# Altium footprint library 61410416121R.PcbLib: 1 footprints
Each footprint in its own frame and in the unit in brackets; x right, y up, seen from the top. Pads: shape width x height; smd on the part's side, far side on the other; paste and mask are expansions set on the pad; w line width, h text height; cw(c..) or ccw(c..) is an arc to the next point about the centre after c.
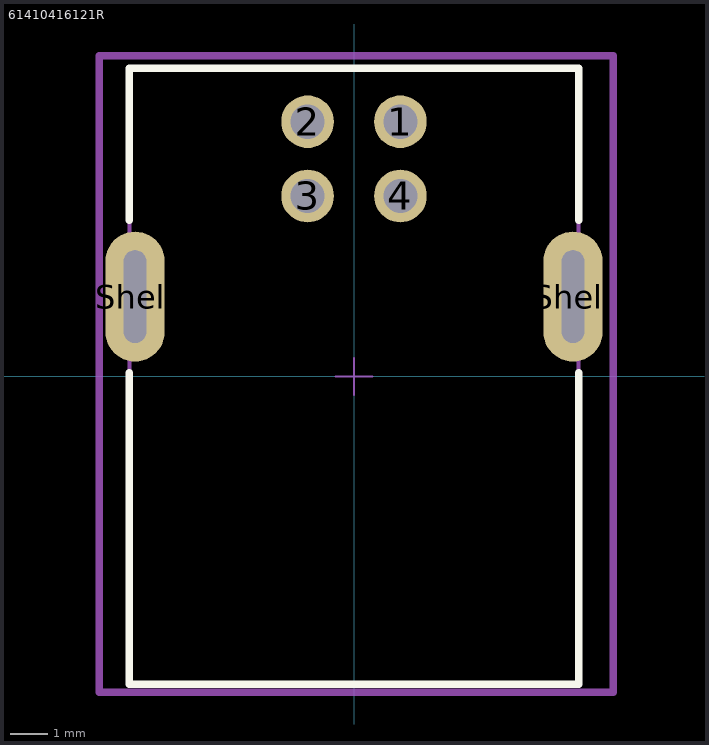
[diagram p0: the footprint, top view; thin cyan lines are the x and y axes]

## 61410416121R [mm]
pads (6):
  round 1.42 hole 0.92: 1(1.25,6.86) 2(-1.25,6.86) 3(-1.25,4.86) 4(1.25,4.86)
  oval 1.6x3.5 hole 0.6 slot 2.5 at 90 deg: Shell(-5.9,2.15) Shell(5.9,2.15)
Top Overlay:
  lines w0.2: -6.05,0.1 -6.05,-8.3 6.05,-8.3 6.05,0.1 ; -6.05,4.2 -6.05,8.3 6.05,8.3 6.05,4.2
Top Assembly:
  lines w0.05: -0.5,0 0.5,0 ; 0,-0.5 0,0.5
  lines w0.1: -6.05,-8.3 6.05,-8.3 6.05,8.3 -6.05,8.3 -6.05,-8.3
Top Courtyard:
  lines w0.2: -6.858,-8.509 6.985,-8.509 6.985,8.636 -6.858,8.636 -6.858,2.286 -6.858,-8.509
3D body "61410416121R.stp": height 11.05, standoff -2.15, extent -6.2,-8.3 6.2,8.3